# EAGLE library part LT1763CS8 (library linear-technology)
500mA, Low Noise, LDO Micropower Regulators Source: http://cds.linear.com/docs/Datasheet/1763ff.pdf
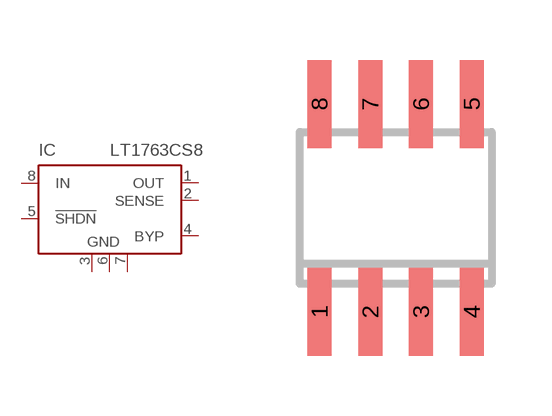
[diagram p21: symbol with the pads of SOIC8; footprint SOIC8]

Designator prefix IC

## LT1763CS8-1.5 (MPN: LT1763CS8-1.5; OC_FARNELL: 1501016; OC_NEWARK: 57M6043), LT1763CS8-1.8 (MPN: LT1763CS8-1.8; OC_FARNELL: 1273615; OC_NEWARK: 57M6047), LT1763CS8-2.5 (MPN: LT1763CS8-2.5; OC_FARNELL: 1273616; OC_NEWARK: 57M6051), LT1763CS8-3 (MPN: LT1763CS8-3; OC_FARNELL: unknown; OC_NEWARK: 02E0014), LT1763CS8-3.3 (MPN: LT1763CS8-3.3; OC_FARNELL: 1273617; OC_NEWARK: 57M6055)  [SOIC8]
1  OUT  pas
2  SENSE  in
3  GND  pwr
4  BYP  in
5  !SHDN  in
6  GND  pwr
7  GND  pwr
8  IN  in

## Footprint SOIC8 (pad centres in mm)
Small Outline IC
smd 0.6 x 2.2: 1 -1.905,-2.6; 2 -0.635,-2.6; 3 0.635,-2.6; 4 1.905,-2.6; 5 1.905,2.6; 6 0.635,2.6; 7 -0.635,2.6; 8 -1.905,2.6